# EAGLE library part DIN5 (library adb)
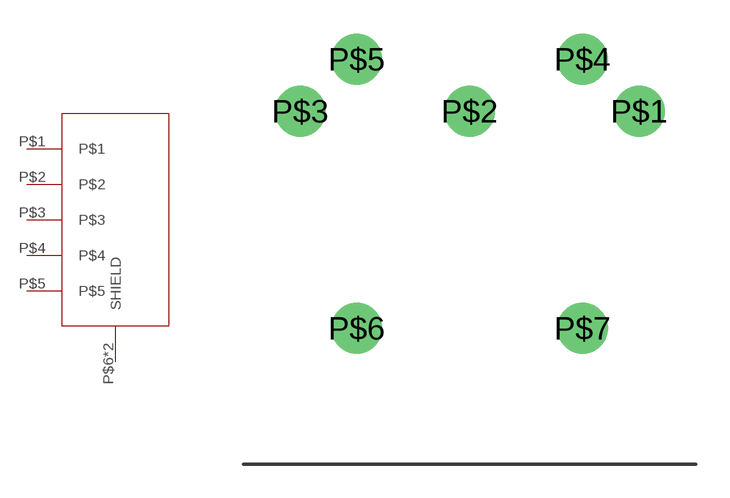
[diagram p2: symbol with the pads of DIN5; footprint DIN5]

Designator prefix -

## DIN5  [DIN5]
P$1  P$1
P$2  P$2
P$3  P$3
P$4  P$4
P$5  P$5
P$6  SHIELD
P$7  SHIELD

## Footprint DIN5 (pad centres in mm)
drill 1.5: P$1 7.5,0; P$2 0,0; P$3 -7.5,0; P$4 5,2.3; P$5 -5,2.3; P$6 -5,-9.6; P$7 5,-9.6